# Altium footprint library Connector_Footprints.PcbLib: 3 footprints
Each footprint in its own frame and in the unit in brackets; x right, y up, seen from the top. Pads: shape width x height; smd on the part's side, far side on the other; paste and mask are expansions set on the pad; w line width, h text height; cw(c..) or ccw(c..) is an arc to the next point about the centre after c.
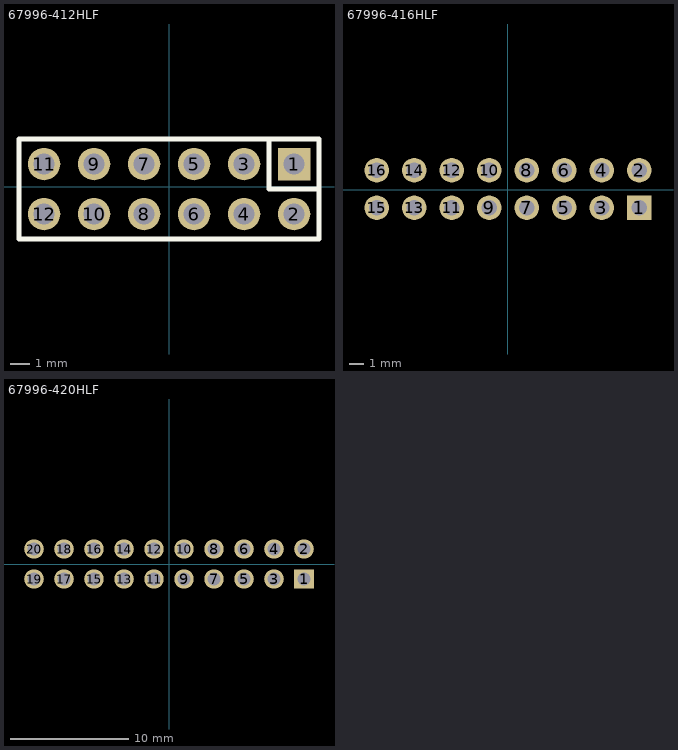
[diagram p0: the footprints below, top view; thin cyan lines are the x and y axes]

## 67996-412HLF [mil] "CONN HEADER 12POS .100 STR TIN"
pads (12):
  rect 65x65 hole 42: 1(250,45)
  round 65 hole 42: 2(250,-55) 3(150,45) 4(150,-55) 5(50,45) 6(50,-55) 7(-50,45) 8(-50,-55) 9(-150,45) 10(-150,-55) 11(-250,45) 12(-250,-55)
Top Overlay:
  lines w10: 200,95 200,-5 300,-5 ; -300,-105 300,-105 300,95 -300,95 -300,-105
3D body: height 80, standoff -350, extent -300,-100 300,100

## 67996-416HLF [mil] "CONN HEADER 16POS .100 STR TIN"
pads (16):
  rect 65x65 hole 42: 1(351,-48)
  round 65 hole 42: 2(351,52) 3(251,-48) 4(251,52) 5(151,-48) 6(151,52) 7(51,-48) 8(51,52) 9(-49,-48) 10(-49,52) 11(-149,-48) 12(-149,52) 13(-249,-48) 14(-249,52) 15(-349,-48) 16(-349,52)
Bottom Overlay:
  lines w10: 301,-93 301,2 401,2 ; -399,-93 401,-93 401,97 -399,97 -399,-93
3D body: height 305, standoff -120, extent -399,-93 401,97

## 67996-420HLF [mil] "CONN 20 PIN 0.100 IN"
pads (20):
  rect 65x65 hole 42: 1(450,-50)
  round 65 hole 42: 2(450,50) 3(350,-50) 4(350,50) 5(250,-50) 6(250,50) 7(150,-50) 8(150,50) 9(50,-50) 10(50,50) 11(-50,-50) 12(-50,50) 13(-150,-50) 14(-150,50) 15(-250,-50) 16(-250,50) 17(-350,-50) 18(-350,50) 19(-450,-50) 20(-450,50)
Bottom Overlay:
  lines w10: -500,-95 -500,95 500,95 500,-95 -500,-95 ; -500,-95 -500,-95
3D body: height 305, standoff -120, extent -500,-95 500,95